# Altium integrated library Infineon_Power_MOSFET.IntLib: 1448 symbols (part 35 of 47)
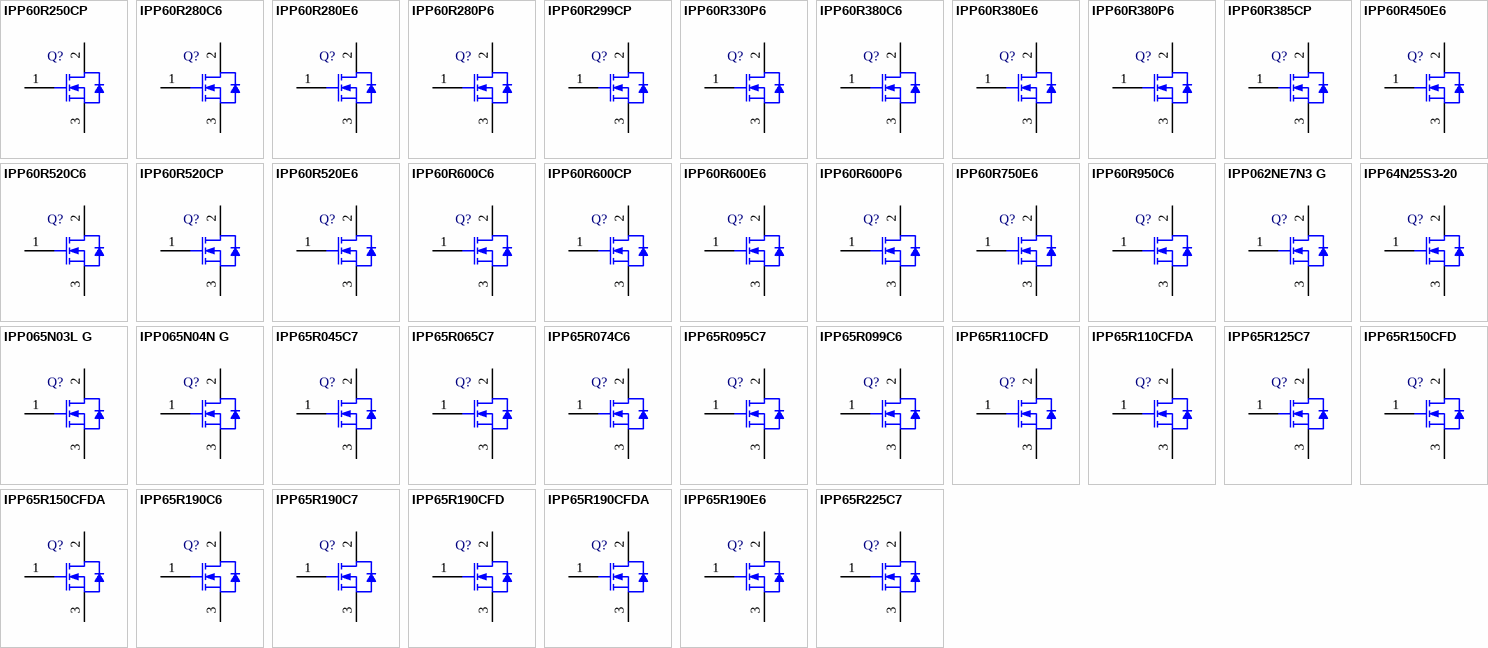
[diagram p71: symbols IPP60R250CP to IPP65R225C7]

## IPP60R600P6
designator Q?
N-Channel CoolMOS(TM) P6 Power Transistor, 600 V VDS, -55 to 150 degC, PG-TO220-3, Tube, Green; Manufacturer: Infineon; PartNumber: IPP60R600P6; Green: TRUE; Polarity: FALSE; RDS (on) (max): 600 mOhm; VDS (max): 600 V; DatasheetVersion: Rev. 2.1; PackageVersion: Rev. 05, 08/2007; PackageReference: PG-TO220-3-1_A; PackageDescription: 3-Pin Plastic (Green) Transistor Single Outline Package, 10.03 x 8.98 mm Body, 2.54 mm Pitch; Supplier 1: Digi-Key; Supplier Part Number 1: IPP60R600P6-ND; Halogen-free: TRUE; Packing: Tube; Mounting Technology: Through Hole; ComponentLink1Description: Manufacturer URL; ComponentLink1URL: http://www.infineon.com/; ComponentLink2Description: Datasheet; ComponentLink2URL: http://www.infineon.com/dgdl/DS_IPx60R600P6_2_1.pdf?folderId=db3a3043156fd5730115c736bcc70ff2&fileId=db3a30433f2e70c5013f3862b5622681; ComponentLink3Description: Package Specification; ComponentLink3URL: http://www.infineon.com/dgdl/IKP30N65H5_2_1.pdf?folderId=db3a3043156fd5730115f56849b61941&fileId=5546d461464245d30146a51a2ca36d28
footprint INF-PG-TO220-3-1_A_V (FM, 3-Leads, Body 10.03x8.98mm, Pitch 2.54mm)
pins: 1 GATE, 2 DRAIN, 3 SOURCE

## IPP60R750E6
designator Q?
N-Channel CoolMOS E6 Power-Transistor, 600 V VDS, 5.7 A ID, -55 to 150 degC, PG-TO220-3-1, Tube, Green; Manufacturer: Infineon; PartNumber: IPP60R750E6; Green: TRUE; ID (max): 5.7 A; IDpuls (max): 15.7 A; Polarity: N; Ptot (max): 48 W; QG: 17.2 nC; RDS (on) (max): 750 mOhm; Rth: 2.6 K/W; RthJA (max): 62 K/W; VDS (max): 600 V; VGS(th) (max): 3.5 V; VGS(th) (min): 2.5 V; DatasheetVersion: Rev. 2.0; PackageVersion: Jul-12; PackageReference: PG-TO220-3-1; PackageDescription: 3-Pin Plastic (Green) Transistor Single Outline Package, 10 x 9.25 mm Body, 2.54 mm Pitch; Supplier 1: Mouser; Supplier Part Number 1: 726-IPP60R750E6; Supplier 2: Digi-Key; Supplier Part Number 2: IPP60R750E6-ND; Halogen-free: TRUE; Packing: Tube; RthJC (max): 2.6 K/W; Technology: CoolMOS E6; Mounting Technology: Through Hole; ComponentLink1Description: Manufacturer URL; ComponentLink1URL: http://www.infineon.com/; ComponentLink2Description: Datasheet; ComponentLink2URL: http://www.infineon.com/dgdl/IPP60R750E6_2.0_.pdf?folderId=db3a3043163797a6011637d4bae7003b&fileId=db3a30432a14dd54012a193e52402af5; ComponentLink3Description: Package Specification; ComponentLink3URL: http://www.infineon.com/dgdl/BTS117_DS_14.pdf?folderId=db3a30431400ef68011421b54e2e0564&fileId=db3a30433a747525013abff8302d549c&location=en.Products.Automotive_ICs.Smart_High-_and_Low-Side_Switches.HITFET___TEMPFET__-_Smart_Low-Side_Switches.DATASHEET.BTS117_DS_14.pdf
footprint INF-PG-TO220-3-1 (FM, 3-Leads, Body 10x4.4mm, Pitch 2.54mm)
pins: 1 GATE, 2 DRAIN, 3 SOURCE

## IPP60R950C6
designator Q?
N-Channel CoolMOS C6 Power-Transistor, 600 V VDS, 4.4 A ID, -55 to 150 degC, PG-TO220-3-1, Tube, Green; Manufacturer: Infineon; PartNumber: IPP60R950C6; Green: TRUE; ID (max): 4.4 A; IDpuls (max): 12 A; Polarity: N; Ptot (max): 37 W; QG: 13 nC; RDS (on) (max): 950 mOhm; Rth: 3.41 K/W; RthJA (max): 62 K/W; VDS (max): 600 V; VGS(th) (max): 3.5 V; VGS(th) (min): 2.5 V; DatasheetVersion: Rev. 2.1; PackageVersion: Jul-12; PackageReference: PG-TO220-3-1; PackageDescription: 3-Pin Plastic (Green) Transistor Single Outline Package, 10 x 9.25 mm Body, 2.54 mm Pitch; Supplier 1: Mouser; Supplier Part Number 1: 726-IPP60R950C6; Supplier 2: Digi-Key; Supplier Part Number 2: IPP60R950C6-ND; Halogen-free: TRUE; Packing: Tube; RthJC (max): 3.41 K/W; Technology: CoolMOS C6; Mounting Technology: Through Hole; ComponentLink1Description: Manufacturer URL; ComponentLink1URL: http://www.infineon.com/; ComponentLink2Description: Datasheet; ComponentLink2URL: http://www.infineon.com/dgdl/IPP60R950C6_2.1.pdf?folderId=db3a30431ff98815012019af55de3f2c&fileId=db3a30432239cccd012297f4f9f644cb; ComponentLink3Description: Package Specification; ComponentLink3URL: http://www.infineon.com/dgdl/BTS117_DS_14.pdf?folderId=db3a30431400ef68011421b54e2e0564&fileId=db3a30433a747525013abff8302d549c&location=en.Products.Automotive_ICs.Smart_High-_and_Low-Side_Switches.HITFET___TEMPFET__-_Smart_Low-Side_Switches.DATASHEET.BTS117_DS_14.pdf
footprint INF-PG-TO220-3-1 (FM, 3-Leads, Body 10x4.4mm, Pitch 2.54mm)
pins: 1 GATE, 2 DRAIN, 3 SOURCE

## IPP062NE7N3 G
designator Q?
N-Channel OptiMOS 3 Power-Transistor, 75 V VDS, 80 A ID, -55 to 175 degC, PG-TO220-3-1, Tube, Green; Manufacturer: Infineon; PartNumber: IPP062NE7N3 G; Green: TRUE; ID (max): 80 A; IDpuls (max): 320 A; Polarity: N; Ptot (max): 136 W; QG: 42 nC; RDS (on) (max): 6.2 mOhm; Rth: 1.1 K/W; VDS (max): 75 V; VGS(th) (max): 3.8 V; VGS(th) (min): 2.3 V; DatasheetVersion: Rev. 2.0; PackageVersion: Rev. 05, 08/2007; PackageReference: PG-TO220-3-1; PackageDescription: 3-Pin Plastic (Green) Transistor Single Outline Package, 10.03 x 8.98 mm Body, 2.54 mm Pitch; Supplier 1: Mouser; Supplier Part Number 1: 726-IPP062NE7N3G; Supplier 2: Digi-Key; Supplier Part Number 2: IPP062NE7N3 G-ND; Halogen-free: TRUE; Packing: Tube; RthJC (max): 1.1 K/W; Mounting Technology: Through Hole; ComponentLink1Description: Manufacturer URL; ComponentLink1URL: http://www.infineon.com/; ComponentLink2Description: Datasheet; ComponentLink2URL: http://www.infineon.com/dgdl/IPP062NE7N3_Rev2+0.pdf?folderId=db3a304327b897500127f1ef299a3be0&fileId=db3a304327b897500127f1efd3323be2; ComponentLink3Description: Package Specification; ComponentLink3URL: http://www.infineon.com/dgdl/IPP028N08N3_Rev1%5B1%5D.0.pdf?folderId=db3a304313b8b5a60113cee8763b02d7&fileId=db3a30432313ff5e0123a3c08e7326b5
footprint INF-PG-TO220-3-1_A_V (FM, 3-Leads, Body 10.03x8.98mm, Pitch 2.54mm)
pins: 1 GATE, 2 DRAIN, 3 SOURCE

## IPP64N25S3-20
designator Q?
OptiMOS-T Power-Transistor, 250 V VDS, 64 A ID, PG-TO220-3-1, Green; Manufacturer: Infineon; PartNumber: IPP64N25S3-20; Green: TRUE; ID (max): 64 A; IDpuls (max): 256 A; Ptot (max): 300 W; QG: 67 nC; RDS (on) (max) (@10V): 20 mOhm; RthJC (max): 0.5 K/W; VDS (max): 250 V; VGS(th) (max): 4 V; VGS(th) (min): 2 V; DatasheetVersion: Rev. 1.0; PackageVersion: Jul-12; PackageReference: PG-TO220-3-1; PackageDescription: 3-Pin Plastic (Green) Transistor Single Outline Package, 10 x 9.25 mm Body, 2.54 mm Pitch; Halogen-free: TRUE; Technology: OptiMOS-T; Mounting Technology: Through Hole; ComponentLink1Description: Manufacturer URL; ComponentLink1URL: http://www.infineon.com/; ComponentLink2Description: Datasheet; ComponentLink2URL: http://www.infineon.com/dgdl/IPP_B_I64N25S3-20_DS_10.pdf?folderId=db3a30433b92f0e8013b9377b6270147&fileId=db3a30433b92f0e8013b937af6620149&location=en.Products.Automotive_ICs.Automotive_MOSFETs.Single__N-Channel_250V_MOSFETs.DATASHEET.IPP_B_I64N25S3-20_DS_10.pdf; ComponentLink3Description: Package Specification; ComponentLink3URL: http://www.infineon.com/dgdl/BTS117_DS_14.pdf?folderId=db3a30431400ef68011421b54e2e0564&fileId=db3a30433a747525013abff8302d549c&location=en.Products.Automotive_ICs.Smart_High-_and_Low-Side_Switches.HITFET___TEMPFET__-_Smart_Low-Side_Switches.DATASHEET.BTS117_DS_14.pdf
footprint INF-PG-TO220-3-1 (FM, 3-Leads, Body 10x4.4mm, Pitch 2.54mm)
pins: 1 GATE, 2 DRAIN, 3 SOURCE

## IPP065N03L G
designator Q?
N-Channel OptiMOS 3 Power-Transistor, 30 V VDS, 50 A ID, -55 to 175 degC, PG-TO220-3-1, Tube, Green; Manufacturer: Infineon; PartNumber: IPP065N03L G; Green: TRUE; ID (max): 50 A; IDpuls (max): 350 A; Polarity: N; Ptot (max): 56 W; QG: 11 nC; RDS (on) (max): 6.5 mOhm; RDS (on) (max) (@4.5V): 9.5 mOhm; Rth: 2.7 K/W; RthJA (max): 62 K/W; VDS (max): 30 V; VGS(th) (max): 2.2 V; VGS(th) (min): 1 V; DatasheetVersion: Rev. 2.0; PackageVersion: Rev. 05, 08/2007; PackageReference: PG-TO220-3-1; PackageDescription: 3-Pin Plastic (Green) Transistor Single Outline Package, 10.03 x 8.98 mm Body, 2.54 mm Pitch; Supplier 1: Digi-Key; Supplier Part Number 1: IPP065N03LGIN-ND; Halogen-free: TRUE; Packing: Tube; RthJC (max): 2.7 K/W; Mounting Technology: Through Hole; ComponentLink1Description: Manufacturer URL; ComponentLink1URL: http://www.infineon.com/; ComponentLink2Description: Datasheet; ComponentLink2URL: http://www.infineon.com/dgdl/IPP065N03L_rev2.pdf?folderId=db3a304313b8b5a60113cee8763b02d7&fileId=db3a30432313ff5e01239ecdff6070bd; ComponentLink3Description: Package Specification; ComponentLink3URL: http://www.infineon.com/dgdl/IPP028N08N3_Rev1%5B1%5D.0.pdf?folderId=db3a304313b8b5a60113cee8763b02d7&fileId=db3a30432313ff5e0123a3c08e7326b5
footprint INF-PG-TO220-3-1_A_V (FM, 3-Leads, Body 10.03x8.98mm, Pitch 2.54mm)
pins: 1 GATE, 2 DRAIN, 3 SOURCE

## IPP065N04N G
designator Q?
N-Channel OptiMOS 3 Power-Transistor, 40 V VDS, 50 A ID, -55 to 175 degC, PG-TO220-3-1, Tube, Green; Manufacturer: Infineon; PartNumber: IPP065N04N G; Green: TRUE; ID (max): 50 A; IDpuls (max): 350 A; Polarity: N; Ptot (max): 68 W; QG: 26 nC; RDS (on) (max): 6.5 mOhm; Rth: 2.2 K/W; VDS (max): 40 V; VGS(th) (max): 4 V; VGS(th) (min): 2 V; DatasheetVersion: Rev. 1.0; PackageVersion: Rev. 05, 08/2007; PackageReference: PG-TO220-3-1; PackageDescription: 3-Pin Plastic (Green) Transistor Single Outline Package, 10.03 x 8.98 mm Body, 2.54 mm Pitch; Supplier 1: Mouser; Supplier Part Number 1: 726-IPP065N04NG; Supplier 2: Digi-Key; Supplier Part Number 2: IPP065N04N G-ND; Halogen-free: TRUE; Packing: Tube; RthJC (max): 2.2 K/W; Mounting Technology: Through Hole; ComponentLink1Description: Manufacturer URL; ComponentLink1URL: http://www.infineon.com/; ComponentLink2Description: Datasheet; ComponentLink2URL: http://www.infineon.com/dgdl/IPP065N04N_rev1.pdf?folderId=db3a3043163797a6011643468e7505a4&fileId=db3a304325afd6e0012626e188d92198; ComponentLink3Description: Package Specification; ComponentLink3URL: http://www.infineon.com/dgdl/IPP028N08N3_Rev1%5B1%5D.0.pdf?folderId=db3a304313b8b5a60113cee8763b02d7&fileId=db3a30432313ff5e0123a3c08e7326b5
footprint INF-PG-TO220-3-1_A_V (FM, 3-Leads, Body 10.03x8.98mm, Pitch 2.54mm)
pins: 1 GATE, 2 DRAIN, 3 SOURCE

## IPP65R045C7
designator Q?
N-Channel CoolMOS(TM) C7 Power Transistor, 650 V VDS, -55 to 150 degC, PG-TO220-3, Tube, Green; Manufacturer: Infineon; PartNumber: IPP65R045C7; Green: TRUE; Polarity: FALSE; RDS (on) (max): 45 mOhm; VDS (max): 650 V; DatasheetVersion: Rev. 2.1; PackageVersion: Rev. 05, 08/2007; PackageReference: PG-TO220-3-1_A; PackageDescription: 3-Pin Plastic (Green) Transistor Single Outline Package, 10.03 x 8.98 mm Body, 2.54 mm Pitch; Supplier 1: Mouser; Supplier Part Number 1: 726-IPP65R045C7; Halogen-free: TRUE; Packing: Tube; Mounting Technology: Through Hole; ComponentLink1Description: Manufacturer URL; ComponentLink1URL: http://www.infineon.com/; ComponentLink2Description: Datasheet; ComponentLink2URL: http://www.infineon.com/dgdl/DS_IPP65R045C7_2_1.pdf?folderId=db3a30431ff98815012019af55de3f2c&fileId=db3a30433e78ea82013e7942aa8701ff; ComponentLink3Description: Package Specification; ComponentLink3URL: http://www.infineon.com/dgdl/IKP30N65H5_2_1.pdf?folderId=db3a3043156fd5730115f56849b61941&fileId=5546d461464245d30146a51a2ca36d28
footprint INF-PG-TO220-3-1_A_V (FM, 3-Leads, Body 10.03x8.98mm, Pitch 2.54mm)
pins: 1 GATE, 2 DRAIN, 3 SOURCE

## IPP65R065C7
designator Q?
N-Channel CoolMOS(TM) C7 Power Transistor, 650 V VDS, -55 to 150 degC, PG-TO220-3, Tube, Green; Manufacturer: Infineon; PartNumber: IPP65R065C7; Green: TRUE; Polarity: FALSE; RDS (on) (max): 65 mOhm; VDS (max): 650 V; DatasheetVersion: Rev. 2.0; PackageVersion: Rev. 05, 08/2007; PackageReference: PG-TO220-3-1_A; PackageDescription: 3-Pin Plastic (Green) Transistor Single Outline Package, 10.03 x 8.98 mm Body, 2.54 mm Pitch; Supplier 1: Mouser; Supplier Part Number 1: N/A; Halogen-free: TRUE; Packing: Tube; Mounting Technology: Through Hole; ComponentLink1Description: Manufacturer URL; ComponentLink1URL: http://www.infineon.com/; ComponentLink2Description: Datasheet; ComponentLink2URL: http://www.infineon.com/dgdl/DS_IPP65R065C7_2_0.pdf?folderId=db3a3043156fd5730115c736bcc70ff2&fileId=db3a30434208e5fd014209a99d8f0281; ComponentLink3Description: Package Specification; ComponentLink3URL: http://www.infineon.com/dgdl/IKP30N65H5_2_1.pdf?folderId=db3a3043156fd5730115f56849b61941&fileId=5546d461464245d30146a51a2ca36d28
footprint INF-PG-TO220-3-1_A_V (FM, 3-Leads, Body 10.03x8.98mm, Pitch 2.54mm)
pins: 1 GATE, 2 DRAIN, 3 SOURCE

## IPP65R074C6
designator Q?
N-Channel CoolMOS C6 Power-Transistor, 650 V VDS, 57.7 A ID, -55 to 150 degC, PG-TO220-3-1, Tube, Green; Manufacturer: Infineon; PartNumber: IPP65R074C6; Green: TRUE; ID (max): 57.7 A; IDpuls (max): 151 A; Polarity: N; Ptot (max): 480.8 W; QG: 138 nC; RDS (on) (max): 74 mOhm; Rth: 0.26 K/W; RthJA (max): 62 K/W; VDS (max): 650 V; VGS(th) (max): 3.5 V; VGS(th) (min): 2.5 V; DatasheetVersion: Rev. 2.1; PackageVersion: Jul-12; PackageReference: PG-TO220-3-1; PackageDescription: 3-Pin Plastic (Green) Transistor Single Outline Package, 10 x 9.25 mm Body, 2.54 mm Pitch; Halogen-free: TRUE; Packing: Tube; RthJC (max): 0.26 K/W; Technology: CoolMOS C6; Mounting Technology: Through Hole; ComponentLink1Description: Manufacturer URL; ComponentLink1URL: http://www.infineon.com/; ComponentLink2Description: Datasheet; ComponentLink2URL: http://www.infineon.com/dgdl/IPP65R074C6_2_1.pdf?folderId=db3a3043163797a6011637d4bae7003b&fileId=db3a3043337a914d013383b9c5d060d1; ComponentLink3Description: Package Specification; ComponentLink3URL: http://www.infineon.com/dgdl/BTS117_DS_14.pdf?folderId=db3a30431400ef68011421b54e2e0564&fileId=db3a30433a747525013abff8302d549c&location=en.Products.Automotive_ICs.Smart_High-_and_Low-Side_Switches.HITFET___TEMPFET__-_Smart_Low-Side_Switches.DATASHEET.BTS117_DS_14.pdf
footprint INF-PG-TO220-3-1 (FM, 3-Leads, Body 10x4.4mm, Pitch 2.54mm)
pins: 1 GATE, 2 DRAIN, 3 SOURCE

## IPP65R095C7
designator Q?
N-Channel CoolMOS(TM) C7 Power Transistor, 650 V VDS, -55 to 150 degC, PG-TO220-3, Tube, Green; Manufacturer: Infineon; PartNumber: IPP65R095C7; Green: TRUE; Polarity: FALSE; RDS (on) (max): 95 mOhm; VDS (max): 650 V; DatasheetVersion: Rev. 2.0; PackageVersion: Rev. 05, 08/2007; PackageReference: PG-TO220-3-1_A; PackageDescription: 3-Pin Plastic (Green) Transistor Single Outline Package, 10.03 x 8.98 mm Body, 2.54 mm Pitch; Supplier 1: Mouser; Supplier Part Number 1: N/A; Halogen-free: TRUE; Packing: Tube; Mounting Technology: Through Hole; ComponentLink1Description: Manufacturer URL; ComponentLink1URL: http://www.infineon.com/; ComponentLink2Description: Datasheet; ComponentLink2URL: http://www.infineon.com/dgdl/DS_IPP65R095C7_2_0.pdf?folderId=db3a3043156fd5730115c736bcc70ff2&fileId=db3a30434208e5fd014209e8c8600334; ComponentLink3Description: Package Specification; ComponentLink3URL: http://www.infineon.com/dgdl/IKP30N65H5_2_1.pdf?folderId=db3a3043156fd5730115f56849b61941&fileId=5546d461464245d30146a51a2ca36d28
footprint INF-PG-TO220-3-1_A_V (FM, 3-Leads, Body 10.03x8.98mm, Pitch 2.54mm)
pins: 1 GATE, 2 DRAIN, 3 SOURCE

## IPP65R099C6
designator Q?
N-Channel CoolMOS C6 Power-Transistor, 650 V VDS, 38 A ID, -55 to 150 degC, PG-TO220-3-1, Tube, Green; Manufacturer: Infineon; PartNumber: IPP65R099C6; Green: TRUE; ID (max): 38 A; IDpuls (max): 115 A; Polarity: N; Ptot (max): 278 W; QG: 127 nC; RDS (on) (max): 99 mOhm; Rth: 0.45 K/W; RthJA (max): 62 K/W; VDS (max): 650 V; VGS(th) (max): 3.5 V; VGS(th) (min): 2.5 V; DatasheetVersion: Rev. 2.0; PackageVersion: Jul-12; PackageReference: PG-TO220-3-1; PackageDescription: 3-Pin Plastic (Green) Transistor Single Outline Package, 10 x 9.25 mm Body, 2.54 mm Pitch; Halogen-free: TRUE; Packing: Tube; RthJC (max): 0.45 K/W; Technology: CoolMOS C6; Mounting Technology: Through Hole; ComponentLink1Description: Manufacturer URL; ComponentLink1URL: http://www.infineon.com/; ComponentLink2Description: Datasheet; ComponentLink2URL: http://www.infineon.com/dgdl/IPP65R099C6.pdf?folderId=db3a3043163797a6011637d4bae7003b&fileId=db3a3043341f67a10134414422d35066; ComponentLink3Description: Package Specification; ComponentLink3URL: http://www.infineon.com/dgdl/BTS117_DS_14.pdf?folderId=db3a30431400ef68011421b54e2e0564&fileId=db3a30433a747525013abff8302d549c&location=en.Products.Automotive_ICs.Smart_High-_and_Low-Side_Switches.HITFET___TEMPFET__-_Smart_Low-Side_Switches.DATASHEET.BTS117_DS_14.pdf
footprint INF-PG-TO220-3-1 (FM, 3-Leads, Body 10x4.4mm, Pitch 2.54mm)
pins: 1 GATE, 2 DRAIN, 3 SOURCE

## IPP65R110CFD
designator Q?
N-Channel CoolMOS CFD2 Power-Transistor, 650 V VDS, 31.2 A ID, -55 to 150 degC, PG-TO220-3-1, Tube, Green; Manufacturer: Infineon; PartNumber: IPP65R110CFD; Green: TRUE; ID (max): 31.2 A; IDpuls (max): 99.6 A; Polarity: N; Ptot (max): 277.8 W; QG: 118 nC; RDS (on) (max): 110 mOhm; Rth: 0.45 K/W; RthJA (max): 62 K/W; VDS (max): 650 V; VGS(th) (max): 4.5 V; VGS(th) (min): 3.5 V; DatasheetVersion: Rev. 2.6; PackageVersion: Jul-12; PackageReference: PG-TO220-3-1; PackageDescription: 3-Pin Plastic (Green) Transistor Single Outline Package, 10 x 9.25 mm Body, 2.54 mm Pitch; Supplier 1: Mouser; Supplier Part Number 1: 726-IPP65R110CFD; Supplier 2: Digi-Key; Supplier Part Number 2: IPP65R110CFD-ND; Halogen-free: TRUE; Packing: Tube; RthJC (max): 0.45 K/W; Technology: CoolMOS CFD2; Mounting Technology: Through Hole; ComponentLink1Description: Manufacturer URL; ComponentLink1URL: http://www.infineon.com/; ComponentLink2Description: Datasheet; ComponentLink2URL: http://www.infineon.com/dgdl/DS_IPX65R110CFD_2_61.pdf?folderId=db3a3043156fd5730115c736bcc70ff2&fileId=db3a30433004641301306abd8e2041b1; ComponentLink3Description: Package Specification; ComponentLink3URL: http://www.infineon.com/dgdl/BTS117_DS_14.pdf?folderId=db3a30431400ef68011421b54e2e0564&fileId=db3a30433a747525013abff8302d549c&location=en.Products.Automotive_ICs.Smart_High-_and_Low-Side_Switches.HITFET___TEMPFET__-_Smart_Low-Side_Switches.DATASHEET.BTS117_DS_14.pdf
footprint INF-PG-TO220-3-1 (FM, 3-Leads, Body 10x4.4mm, Pitch 2.54mm)
pins: 1 GATE, 2 DRAIN, 3 SOURCE

## IPP65R110CFDA
designator Q?
N-Channel CoolMOS CFDA Power-Transistor, 650 V VDS, 31.2 A ID, -40 to 150 degC, PG-TO220-3-1, Tube, Green; Manufacturer: Infineon; PartNumber: IPP65R110CFDA; Green: TRUE; ID (max): 31.2 A; IDpuls (max): 99.6 A; Polarity: N; Ptot (max): 277.8 W; QG: 118 nC; RDS (on) (max): 110 mOhm; Rth: 0.45 K/W; RthJA (max): 62 K/W; VDS (max): 650 V; VGS(th) (max): 4.5 V; VGS(th) (min): 3.5 V; DatasheetVersion: Rev. 2.0; PackageVersion: Jul-12; PackageReference: PG-TO220-3-1; PackageDescription: 3-Pin Plastic (Green) Transistor Single Outline Package, 10 x 9.25 mm Body, 2.54 mm Pitch; Halogen-free: TRUE; Packing: Tube; RthJC (max): 0.45 K/W; Technology: CoolMOS CFDA; Mounting Technology: Through Hole; ComponentLink1Description: Manufacturer URL; ComponentLink1URL: http://www.infineon.com/; ComponentLink2Description: Datasheet; ComponentLink2URL: http://www.infineon.com/dgdl/DS_IPX65R110CFDA_2_0.pdf?folderId=db3a3043163797a6011637d4bae7003b&fileId=db3a304336797ff90136ba7c820925a5; ComponentLink3Description: Package Specification; ComponentLink3URL: http://www.infineon.com/dgdl/BTS117_DS_14.pdf?folderId=db3a30431400ef68011421b54e2e0564&fileId=db3a30433a747525013abff8302d549c&location=en.Products.Automotive_ICs.Smart_High-_and_Low-Side_Switches.HITFET___TEMPFET__-_Smart_Low-Side_Switches.DATASHEET.BTS117_DS_14.pdf
footprint INF-PG-TO220-3-1 (FM, 3-Leads, Body 10x4.4mm, Pitch 2.54mm)
pins: 1 GATE, 2 DRAIN, 3 SOURCE

## IPP65R125C7
designator Q?
N-Channel CoolMOS(TM) C7 Power Transistor, 650 V VDS, -55 to 150 degC, PG-TO220-3, Tube, Green; Manufacturer: Infineon; PartNumber: IPP65R125C7; Green: TRUE; Polarity: FALSE; RDS (on) (max): 125 mOhm; VDS (max): 650 V; DatasheetVersion: Rev. 2.0; PackageVersion: Rev. 05, 08/2007; PackageReference: PG-TO220-3-1_A; PackageDescription: 3-Pin Plastic (Green) Transistor Single Outline Package, 10.03 x 8.98 mm Body, 2.54 mm Pitch; Supplier 1: Farnell; Supplier Part Number 1: 2420507; Supplier 2: Newark; Supplier Part Number 2: 54X5231; Supplier 3: Mouser; Supplier Part Number 3: N/A; Halogen-free: TRUE; Packing: Tube; Mounting Technology: Through Hole; ComponentLink1Description: Manufacturer URL; ComponentLink1URL: http://www.infineon.com/; ComponentLink2Description: Datasheet; ComponentLink2URL: http://www.infineon.com/dgdl/DS_IPP65R125C7_2_0.pdf?folderId=db3a3043156fd5730115c736bcc70ff2&fileId=db3a30434208e5fd014209f7e8700375; ComponentLink3Description: Package Specification; ComponentLink3URL: http://www.infineon.com/dgdl/IKP30N65H5_2_1.pdf?folderId=db3a3043156fd5730115f56849b61941&fileId=5546d461464245d30146a51a2ca36d28
footprint INF-PG-TO220-3-1_A_V (FM, 3-Leads, Body 10.03x8.98mm, Pitch 2.54mm)
pins: 1 GATE, 2 DRAIN, 3 SOURCE

## IPP65R150CFD
designator Q?
N-Channel CoolMOS CFD2 Power-Transistor, 650 V VDS, 22.4 A ID, -55 to 150 degC, PG-TO220-3-1, Tube, Green; Manufacturer: Infineon; PartNumber: IPP65R150CFD; Green: TRUE; ID (max): 22.4 A; IDpuls (max): 72 A; Polarity: N; Ptot (max): 195.3 W; QG: 86 nC; RDS (on) (max): 150 mOhm; Rth: 0.64 K/W; RthJA (max): 62 K/W; VDS (max): 650 V; VGS(th) (max): 4.5 V; VGS(th) (min): 3.5 V; DatasheetVersion: Rev. 2.0; PackageVersion: Jul-12; PackageReference: PG-TO220-3-1; PackageDescription: 3-Pin Plastic (Green) Transistor Single Outline Package, 10 x 9.25 mm Body, 2.54 mm Pitch; Halogen-free: TRUE; Packing: Tube; RthJC (max): 0.64 K/W; Technology: CoolMOS CFD2; Mounting Technology: Through Hole; ComponentLink1Description: Manufacturer URL; ComponentLink1URL: http://www.infineon.com/; ComponentLink2Description: Datasheet; ComponentLink2URL: http://www.infineon.com/dgdl/DS_IPX65R150CFD__2_01.pdf?folderId=db3a3043156fd5730115c736bcc70ff2&fileId=db3a3043338c8ac80133ace218433063; ComponentLink3Description: Package Specification; ComponentLink3URL: http://www.infineon.com/dgdl/BTS117_DS_14.pdf?folderId=db3a30431400ef68011421b54e2e0564&fileId=db3a30433a747525013abff8302d549c&location=en.Products.Automotive_ICs.Smart_High-_and_Low-Side_Switches.HITFET___TEMPFET__-_Smart_Low-Side_Switches.DATASHEET.BTS117_DS_14.pdf
footprint INF-PG-TO220-3-1 (FM, 3-Leads, Body 10x4.4mm, Pitch 2.54mm)
pins: 1 GATE, 2 DRAIN, 3 SOURCE

## IPP65R150CFDA
designator Q?
N-Channel CoolMOS CFDA Power-Transistor, 650 V VDS, 22.4 A ID, -40 to 150 degC, PG-TO220-3-1, Tube, Green; Manufacturer: Infineon; PartNumber: IPP65R150CFDA; Green: TRUE; ID (max): 22.4 A; IDpuls (max): 72 A; Polarity: N; Ptot (max): 195.3 W; QG: 86 nC; RDS (on) (max): 150 mOhm; Rth: 0.64 K/W; RthJA (max): 62 K/W; VDS (max): 650 V; VGS(th) (max): 4.5 V; VGS(th) (min): 3.5 V; DatasheetVersion: Rev. 2.0; PackageVersion: Jul-12; PackageReference: PG-TO220-3-1; PackageDescription: 3-Pin Plastic (Green) Transistor Single Outline Package, 10 x 9.25 mm Body, 2.54 mm Pitch; Halogen-free: TRUE; Packing: Tube; RthJC (max): 0.64 K/W; Technology: CoolMOS CFDA; Mounting Technology: Through Hole; ComponentLink1Description: Manufacturer URL; ComponentLink1URL: http://www.infineon.com/; ComponentLink2Description: Datasheet; ComponentLink2URL: http://www.infineon.com/dgdl/DS_IPX65R150CFDA_final+2.0.pdf?folderId=db3a3043156fd5730115c736bcc70ff2&fileId=db3a3043399628450139af71b2a12046; ComponentLink3Description: Package Specification; ComponentLink3URL: http://www.infineon.com/dgdl/BTS117_DS_14.pdf?folderId=db3a30431400ef68011421b54e2e0564&fileId=db3a30433a747525013abff8302d549c&location=en.Products.Automotive_ICs.Smart_High-_and_Low-Side_Switches.HITFET___TEMPFET__-_Smart_Low-Side_Switches.DATASHEET.BTS117_DS_14.pdf
footprint INF-PG-TO220-3-1 (FM, 3-Leads, Body 10x4.4mm, Pitch 2.54mm)
pins: 1 GATE, 2 DRAIN, 3 SOURCE

## IPP65R190C6
designator Q?
N-Channel CoolMOS C6 Power-Transistor, 650 V VDS, 20.2 A ID, -55 to 150 degC, PG-TO220-3-1, Tube, Green; Manufacturer: Infineon; PartNumber: IPP65R190C6; Green: TRUE; ID (max): 20.2 A; IDpuls (max): 66 A; Polarity: N; Ptot (max): 151 W; QG: 73 nC; RDS (on) (max): 190 mOhm; Rth: 0.83 K/W; RthJA (max): 62 K/W; VDS (max): 650 V; VGS(th) (max): 3.5 V; VGS(th) (min): 2.5 V; DatasheetVersion: Rev. 2.0; PackageVersion: Jul-12; PackageReference: PG-TO220-3-1; PackageDescription: 3-Pin Plastic (Green) Transistor Single Outline Package, 10 x 9.25 mm Body, 2.54 mm Pitch; Halogen-free: TRUE; Packing: Tube; RthJC (max): 0.83 K/W; Technology: CoolMOS C6; Mounting Technology: Through Hole; ComponentLink1Description: Manufacturer URL; ComponentLink1URL: http://www.infineon.com/; ComponentLink2Description: Datasheet; ComponentLink2URL: http://www.infineon.com/dgdl/IPP65R190C6_2_0.pdf?folderId=db3a3043163797a6011637d4bae7003b&fileId=db3a304330046413013007f7a1553d7c; ComponentLink3Description: Package Specification; ComponentLink3URL: http://www.infineon.com/dgdl/BTS117_DS_14.pdf?folderId=db3a30431400ef68011421b54e2e0564&fileId=db3a30433a747525013abff8302d549c&location=en.Products.Automotive_ICs.Smart_High-_and_Low-Side_Switches.HITFET___TEMPFET__-_Smart_Low-Side_Switches.DATASHEET.BTS117_DS_14.pdf
footprint INF-PG-TO220-3-1 (FM, 3-Leads, Body 10x4.4mm, Pitch 2.54mm)
pins: 1 GATE, 2 DRAIN, 3 SOURCE

## IPP65R190C7
designator Q?
N-Channel CoolMOS(TM) C7 Power Transistor, 650 V VDS, -55 to 150 degC, PG-TO220-3, Tube, Green; Manufacturer: Infineon; PartNumber: IPP65R190C7; Green: TRUE; Polarity: FALSE; RDS (on) (max): 190 mOhm; VDS (max): 650 V; DatasheetVersion: Rev. 2.1; PackageVersion: Rev. 05, 08/2007; PackageReference: PG-TO220-3-1_A; PackageDescription: 3-Pin Plastic (Green) Transistor Single Outline Package, 10.03 x 8.98 mm Body, 2.54 mm Pitch; Supplier 1: Farnell; Supplier Part Number 1: 2420494; Supplier 2: Newark; Supplier Part Number 2: 54X5232; Supplier 3: Mouser; Supplier Part Number 3: N/A; Halogen-free: available; Packing: Tube; Mounting Technology: Through Hole; ComponentLink1Description: Manufacturer URL; ComponentLink1URL: http://www.infineon.com/; ComponentLink2Description: Datasheet; ComponentLink2URL: http://www.infineon.com/dgdl/DS_IPP65R190C7_2_1.pdf?folderId=db3a3043156fd5730115c736bcc70ff2&fileId=db3a30434208e5fd01420d92241763c9; ComponentLink3Description: Package Specification; ComponentLink3URL: http://www.infineon.com/dgdl/IKP30N65H5_2_1.pdf?folderId=db3a3043156fd5730115f56849b61941&fileId=5546d461464245d30146a51a2ca36d28
footprint INF-PG-TO220-3-1_A_V (FM, 3-Leads, Body 10.03x8.98mm, Pitch 2.54mm)
pins: 1 GATE, 2 DRAIN, 3 SOURCE

## IPP65R190CFD
designator Q?
N-Channel CoolMOS C6 CFD Power-Transistor, 650 V VDS, 17.5 A ID, -55 to 150 degC, PG-TO220-3-1, Tube, Green; Manufacturer: Infineon; PartNumber: IPP65R190CFD; Green: TRUE; ID (max): 17.5 A; IDpuls (max): 57.2 A; Polarity: N; Ptot (max): 151 W; QG: 68 nC; RDS (on) (max): 190 mOhm; Rth: 0.83 K/W; RthJA (max): 62 K/W; VDS (max): 650 V; VGS(th) (max): 4.5 V; VGS(th) (min): 3.5 V; DatasheetVersion: Rev. 2.2; PackageVersion: Jul-12; PackageReference: PG-TO220-3-1; PackageDescription: 3-Pin Plastic (Green) Transistor Single Outline Package, 10 x 9.25 mm Body, 2.54 mm Pitch; Supplier 1: Mouser; Supplier Part Number 1: 726-IPP65R190CFD; Supplier 2: Digi-Key; Supplier Part Number 2: IPP65R190CFD-ND; Halogen-free: TRUE; Packing: Tube; RthJC (max): 0.83 K/W; Technology: CoolMOS CFD2; Mounting Technology: Through Hole; ComponentLink1Description: Manufacturer URL; ComponentLink1URL: http://www.infineon.com/; ComponentLink2Description: Datasheet; ComponentLink2URL: http://www.infineon.com/dgdl/DS_IPX65R190CFD__2_2.pdf?folderId=db3a3043163797a6011637d4bae7003b&fileId=db3a30432fd0c54a012fded065a8309b; ComponentLink3Description: Package Specification; ComponentLink3URL: http://www.infineon.com/dgdl/BTS117_DS_14.pdf?folderId=db3a30431400ef68011421b54e2e0564&fileId=db3a30433a747525013abff8302d549c&location=en.Products.Automotive_ICs.Smart_High-_and_Low-Side_Switches.HITFET___TEMPFET__-_Smart_Low-Side_Switches.DATASHEET.BTS117_DS_14.pdf
footprint INF-PG-TO220-3-1 (FM, 3-Leads, Body 10x4.4mm, Pitch 2.54mm)
pins: 1 GATE, 2 DRAIN, 3 SOURCE

## IPP65R190CFDA
designator Q?
N-Channel CoolMOS CFDA Power-Transistor, 650 V VDS, 17.5 A ID, -40 to 150 degC, PG-TO220-3-1, Tube, Green; Manufacturer: Infineon; PartNumber: IPP65R190CFDA; Green: TRUE; ID (max): 17.5 A; IDpuls (max): 57.2 A; Polarity: N; Ptot (max): 151 W; QG: 68 nC; RDS (on) (max): 190 mOhm; Rth: 0.83 K/W; RthJA (max): 62 K/W; VDS (max): 650 V; VGS(th) (max): 4.5 V; VGS(th) (min): 3.5 V; DatasheetVersion: Rev. 2.0; PackageVersion: Jul-12; PackageReference: PG-TO220-3-1; PackageDescription: 3-Pin Plastic (Green) Transistor Single Outline Package, 10 x 9.25 mm Body, 2.54 mm Pitch; Halogen-free: TRUE; Packing: Tube; RthJC (max): 0.83 K/W; Technology: CoolMOS CFDA; Mounting Technology: Through Hole; ComponentLink1Description: Manufacturer URL; ComponentLink1URL: http://www.infineon.com/; ComponentLink2Description: Datasheet; ComponentLink2URL: http://www.infineon.com/dgdl/DS_IPX65R190CFDA_final+2.0.pdf?folderId=db3a3043156fd5730115c736bcc70ff2&fileId=db3a3043399628450139afa2346920a1; ComponentLink3Description: Package Specification; ComponentLink3URL: http://www.infineon.com/dgdl/BTS117_DS_14.pdf?folderId=db3a30431400ef68011421b54e2e0564&fileId=db3a30433a747525013abff8302d549c&location=en.Products.Automotive_ICs.Smart_High-_and_Low-Side_Switches.HITFET___TEMPFET__-_Smart_Low-Side_Switches.DATASHEET.BTS117_DS_14.pdf
footprint INF-PG-TO220-3-1 (FM, 3-Leads, Body 10x4.4mm, Pitch 2.54mm)
pins: 1 GATE, 2 DRAIN, 3 SOURCE

## IPP65R190E6
designator Q?
N-Channel CoolMOS E6 Power-Transistor, 650 V VDS, 20.2 A ID, -55 to 150 degC, PG-TO220-3-1, Tube, Green; Manufacturer: Infineon; PartNumber: IPP65R190E6; Green: TRUE; ID (max): 20.2 A; IDpuls (max): 66 A; Polarity: N; Ptot (max): 151 W; QG: 73 nC; RDS (on) (max): 190 mOhm; Rth: 0.83 K/W; RthJA (max): 62 K/W; VDS (max): 650 V; VGS(th) (max): 3.5 V; VGS(th) (min): 2.5 V; DatasheetVersion: Rev. 2.0; PackageVersion: Jul-12; PackageReference: PG-TO220-3-1; PackageDescription: 3-Pin Plastic (Green) Transistor Single Outline Package, 10 x 9.25 mm Body, 2.54 mm Pitch; Halogen-free: TRUE; Packing: Tube; RthJC (max): 0.83 K/W; Technology: CoolMOS E6; Mounting Technology: Through Hole; ComponentLink1Description: Manufacturer URL; ComponentLink1URL: http://www.infineon.com/; ComponentLink2Description: Datasheet; ComponentLink2URL: http://www.infineon.com/dgdl/IPP65R190E6_2_0.pdf?folderId=db3a3043163797a6011637d4bae7003b&fileId=db3a3043300464130130075026ea3b7e; ComponentLink3Description: Package Specification; ComponentLink3URL: http://www.infineon.com/dgdl/BTS117_DS_14.pdf?folderId=db3a30431400ef68011421b54e2e0564&fileId=db3a30433a747525013abff8302d549c&location=en.Products.Automotive_ICs.Smart_High-_and_Low-Side_Switches.HITFET___TEMPFET__-_Smart_Low-Side_Switches.DATASHEET.BTS117_DS_14.pdf
footprint INF-PG-TO220-3-1 (FM, 3-Leads, Body 10x4.4mm, Pitch 2.54mm)
pins: 1 GATE, 2 DRAIN, 3 SOURCE

## IPP65R225C7
designator Q?
N-Channel CoolMOS(TM) C7 Power Transistor, 650 V VDS, -55 to 150 degC, PG-TO220-3, Tube, Green; Manufacturer: Infineon; PartNumber: IPP65R225C7; Green: TRUE; Polarity: FALSE; RDS (on) (max): 225 mOhm; VDS (max): 650 V; DatasheetVersion: Rev. 2.0; PackageVersion: Rev. 05, 08/2007; PackageReference: PG-TO220-3-1_A; PackageDescription: 3-Pin Plastic (Green) Transistor Single Outline Package, 10.03 x 8.98 mm Body, 2.54 mm Pitch; Supplier 1: Mouser; Supplier Part Number 1: 726-IPB65R225C7; Halogen-free: TRUE; Packing: Tube; Mounting Technology: Through Hole; ComponentLink1Description: Manufacturer URL; ComponentLink1URL: http://www.infineon.com/; ComponentLink2Description: Datasheet; ComponentLink2URL: http://www.infineon.com/dgdl/DS_IPP65R225C7_2_0.pdf?folderId=db3a30431ff98815012019af55de3f2c&fileId=db3a30433e78ea82013e7929d3340105; ComponentLink3Description: Package Specification; ComponentLink3URL: http://www.infineon.com/dgdl/IKP30N65H5_2_1.pdf?folderId=db3a3043156fd5730115f56849b61941&fileId=5546d461464245d30146a51a2ca36d28
footprint INF-PG-TO220-3-1_A_V (FM, 3-Leads, Body 10.03x8.98mm, Pitch 2.54mm)
pins: 1 GATE, 2 DRAIN, 3 SOURCE

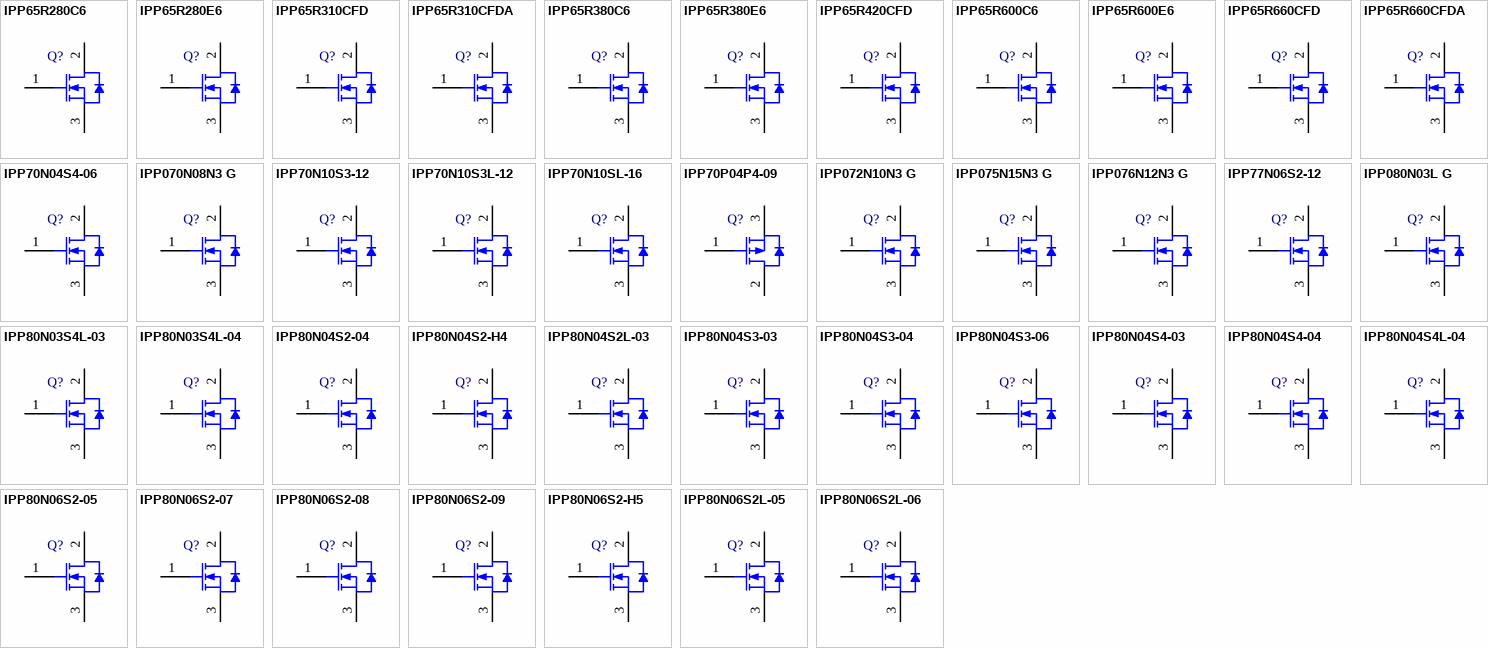
[diagram p28: symbols IPP65R280C6 to IPP80N06S2L-06]

## IPP65R280C6
designator Q?
N-Channel CoolMOS C6 Power-Transistor, 650 V VDS, 13.8 A ID, -55 to 150 degC, PG-TO220-3-1, Tube, Green; Manufacturer: Infineon; PartNumber: IPP65R280C6; Green: TRUE; ID (max): 13.8 A; IDpuls (max): 39 A; Polarity: N; Ptot (max): 104 W; QG: 45 nC; RDS (on) (max): 280 mOhm; Rth: 1.2 K/W; RthJA (max): 62 K/W; VDS (max): 650 V; VGS(th) (max): 3.5 V; VGS(th) (min): 2.5 V; DatasheetVersion: Rev. 2.0; PackageVersion: Jul-12; PackageReference: PG-TO220-3-1; PackageDescription: 3-Pin Plastic (Green) Transistor Single Outline Package, 10 x 9.25 mm Body, 2.54 mm Pitch; Supplier 1: Mouser; Supplier Part Number 1: 726-IPP65R280C6; Supplier 2: Digi-Key; Supplier Part Number 2: IPP65R280C6-ND; Halogen-free: TRUE; Packing: Tube; RthJC (max): 1.2 K/W; Technology: CoolMOS C6; Mounting Technology: Through Hole; ComponentLink1Description: Manufacturer URL; ComponentLink1URL: http://www.infineon.com/; ComponentLink2Description: Datasheet; ComponentLink2URL: http://www.infineon.com/dgdl/IPP65R280C6_2_0.pdf?folderId=db3a3043163797a6011637d4bae7003b&fileId=db3a30432a7fedfc012a8a961e7158be; ComponentLink3Description: Package Specification; ComponentLink3URL: http://www.infineon.com/dgdl/BTS117_DS_14.pdf?folderId=db3a30431400ef68011421b54e2e0564&fileId=db3a30433a747525013abff8302d549c&location=en.Products.Automotive_ICs.Smart_High-_and_Low-Side_Switches.HITFET___TEMPFET__-_Smart_Low-Side_Switches.DATASHEET.BTS117_DS_14.pdf
footprint INF-PG-TO220-3-1 (FM, 3-Leads, Body 10x4.4mm, Pitch 2.54mm)
pins: 1 GATE, 2 DRAIN, 3 SOURCE

## IPP65R280E6
designator Q?
N-Channel CoolMOS E6 Power-Transistor, 650 V VDS, 13.8 A ID, -55 to 150 degC, PG-TO220-3-1, Tube, Green; Manufacturer: Infineon; PartNumber: IPP65R280E6; Green: TRUE; ID (max): 13.8 A; IDpuls (max): 39 A; Polarity: N; Ptot (max): 104 W; QG: 45 nC; RDS (on) (max): 280 mOhm; Rth: 1.2 K/W; RthJA (max): 62 K/W; VDS (max): 650 V; VGS(th) (max): 3.5 V; VGS(th) (min): 2.5 V; DatasheetVersion: Rev. 2.1; PackageVersion: Jul-12; PackageReference: PG-TO220-3-1; PackageDescription: 3-Pin Plastic (Green) Transistor Single Outline Package, 10 x 9.25 mm Body, 2.54 mm Pitch; Supplier 1: Mouser; Supplier Part Number 1: 726-IPP65R280E6; Supplier 2: Digi-Key; Supplier Part Number 2: IPP65R280E6-ND; Halogen-free: TRUE; Packing: Tube; RthJC (max): 1.2 K/W; Technology: CoolMOS E6; Mounting Technology: Through Hole; ComponentLink1Description: Manufacturer URL; ComponentLink1URL: http://www.infineon.com/; ComponentLink2Description: Datasheet; ComponentLink2URL: http://www.infineon.com/dgdl/IPP65R280E6_2_1.pdf?folderId=db3a3043163797a6011637d4bae7003b&fileId=db3a30432a7fedfc012a9e060bb10747; ComponentLink3Description: Package Specification; ComponentLink3URL: http://www.infineon.com/dgdl/BTS117_DS_14.pdf?folderId=db3a30431400ef68011421b54e2e0564&fileId=db3a30433a747525013abff8302d549c&location=en.Products.Automotive_ICs.Smart_High-_and_Low-Side_Switches.HITFET___TEMPFET__-_Smart_Low-Side_Switches.DATASHEET.BTS117_DS_14.pdf
footprint INF-PG-TO220-3-1 (FM, 3-Leads, Body 10x4.4mm, Pitch 2.54mm)
pins: 1 GATE, 2 DRAIN, 3 SOURCE

## IPP65R310CFD
designator Q?
N-Channel CoolMOS CFD2 Power-Transistor, 650 V VDS, 11.4 A ID, -55 to 150 degC, PG-TO220-3-1, Tube, Green; Manufacturer: Infineon; PartNumber: IPP65R310CFD; Green: TRUE; ID (max): 11.4 A; IDpuls (max): 34.4 A; Polarity: N; Ptot (max): 104.2 W; QG: 41 nC; RDS (on) (max): 310 mOhm; Rth: 1.2 K/W; RthJA (max): 62 K/W; VDS (max): 650 V; VGS(th) (max): 4.5 V; VGS(th) (min): 3.5 V; DatasheetVersion: Rev. 2.3; PackageVersion: Jul-12; PackageReference: PG-TO220-3-1; PackageDescription: 3-Pin Plastic (Green) Transistor Single Outline Package, 10 x 9.25 mm Body, 2.54 mm Pitch; Supplier 1: Mouser; Supplier Part Number 1: 726-IPP65R310CFD; Supplier 2: Digi-Key; Supplier Part Number 2: IPP65R310CFD-ND; Halogen-free: TRUE; Packing: Tube; RthJC (max): 1.2 K/W; Technology: CoolMOS CFD2; Mounting Technology: Through Hole; ComponentLink1Description: Manufacturer URL; ComponentLink1URL: http://www.infineon.com/; ComponentLink2Description: Datasheet; ComponentLink2URL: http://www.infineon.com/dgdl/DS_IPX65R310CFD__2_3.pdf?folderId=db3a3043163797a6011637d4bae7003b&fileId=db3a30432f91014f012f9caff105741c; ComponentLink3Description: Package Specification; ComponentLink3URL: http://www.infineon.com/dgdl/BTS117_DS_14.pdf?folderId=db3a30431400ef68011421b54e2e0564&fileId=db3a30433a747525013abff8302d549c&location=en.Products.Automotive_ICs.Smart_High-_and_Low-Side_Switches.HITFET___TEMPFET__-_Smart_Low-Side_Switches.DATASHEET.BTS117_DS_14.pdf
footprint INF-PG-TO220-3-1 (FM, 3-Leads, Body 10x4.4mm, Pitch 2.54mm)
pins: 1 GATE, 2 DRAIN, 3 SOURCE

## IPP65R310CFDA
designator Q?
N-Channel CoolMOS CFDA Power-Transistor, 650 V VDS, 11.4 A ID, -40 to 150 degC, PG-TO220-3-1, Tube, Green; Manufacturer: Infineon; PartNumber: IPP65R310CFDA; Green: TRUE; ID (max): 11.4 A; IDpuls (max): 34.4 A; Polarity: N; Ptot (max): 104.2 W; QG: 41 nC; RDS (on) (max): 310 mOhm; Rth: 1.2 K/W; RthJA (max): 62 K/W; VDS (max): 650 V; VGS(th) (max): 4.5 V; VGS(th) (min): 3.5 V; DatasheetVersion: Rev. 2.0; PackageVersion: Jul-12; PackageReference: PG-TO220-3-1; PackageDescription: 3-Pin Plastic (Green) Transistor Single Outline Package, 10 x 9.25 mm Body, 2.54 mm Pitch; Halogen-free: TRUE; Packing: Tube; RthJC (max): 1.2 K/W; Technology: CoolMOS CFDA; Mounting Technology: Through Hole; ComponentLink1Description: Manufacturer URL; ComponentLink1URL: http://www.infineon.com/; ComponentLink2Description: Datasheet; ComponentLink2URL: http://www.infineon.com/dgdl/DS_IPX65R310CFDA_2_0.pdf?folderId=db3a3043163797a6011637d4bae7003b&fileId=db3a304336797ff90136bafdd723265d; ComponentLink3Description: Package Specification; ComponentLink3URL: http://www.infineon.com/dgdl/BTS117_DS_14.pdf?folderId=db3a30431400ef68011421b54e2e0564&fileId=db3a30433a747525013abff8302d549c&location=en.Products.Automotive_ICs.Smart_High-_and_Low-Side_Switches.HITFET___TEMPFET__-_Smart_Low-Side_Switches.DATASHEET.BTS117_DS_14.pdf
footprint INF-PG-TO220-3-1 (FM, 3-Leads, Body 10x4.4mm, Pitch 2.54mm)
pins: 1 GATE, 2 DRAIN, 3 SOURCE

## IPP65R380C6
designator Q?
N-Channel CoolMOS C6 Power-Transistor, 650 V VDS, 10.6 A ID, -55 to 150 degC, PG-TO220-3-1, Tube, Green; Manufacturer: Infineon; PartNumber: IPP65R380C6; Green: TRUE; ID (max): 10.6 A; IDpuls (max): 29 A; Polarity: N; Ptot (max): 83 W; QG: 39 nC; RDS (on) (max): 380 mOhm; Rth: 1.5 K/W; RthJA (max): 62 K/W; VDS (max): 650 V; VGS(th) (max): 3.5 V; VGS(th) (min): 2.5 V; DatasheetVersion: Rev. 2.0; PackageVersion: Jul-12; PackageReference: PG-TO220-3-1; PackageDescription: 3-Pin Plastic (Green) Transistor Single Outline Package, 10 x 9.25 mm Body, 2.54 mm Pitch; Supplier 1: Mouser; Supplier Part Number 1: 726-IPP65R380C6; Supplier 2: Digi-Key; Supplier Part Number 2: IPP65R380C6-ND; Halogen-free: TRUE; Packing: Tube; RthJC (max): 1.5 K/W; Technology: CoolMOS C6; Mounting Technology: Through Hole; ComponentLink1Description: Manufacturer URL; ComponentLink1URL: http://www.infineon.com/; ComponentLink2Description: Datasheet; ComponentLink2URL: http://www.infineon.com/dgdl/IPP65R380C6+2.0.pdf?folderId=db3a3043163797a6011637d4bae7003b&fileId=db3a30432ba3fa6f012bf2d555ca77de; ComponentLink3Description: Package Specification; ComponentLink3URL: http://www.infineon.com/dgdl/BTS117_DS_14.pdf?folderId=db3a30431400ef68011421b54e2e0564&fileId=db3a30433a747525013abff8302d549c&location=en.Products.Automotive_ICs.Smart_High-_and_Low-Side_Switches.HITFET___TEMPFET__-_Smart_Low-Side_Switches.DATASHEET.BTS117_DS_14.pdf
footprint INF-PG-TO220-3-1 (FM, 3-Leads, Body 10x4.4mm, Pitch 2.54mm)
pins: 1 GATE, 2 DRAIN, 3 SOURCE

## IPP65R380E6
designator Q?
N-Channel CoolMOS E6 Power-Transistor, 650 V VDS, 10.6 A ID, -55 to 150 degC, PG-TO220-3-1, Tube, Green; Manufacturer: Infineon; PartNumber: IPP65R380E6; Green: TRUE; ID (max): 10.6 A; IDpuls (max): 29 A; Polarity: N; Ptot (max): 83 W; QG: 39 nC; RDS (on) (max): 380 mOhm; Rth: 1.5 K/W; RthJA (max): 62 K/W; VDS (max): 650 V; VGS(th) (max): 3.5 V; VGS(th) (min): 2.5 V; DatasheetVersion: Rev. 2.0; PackageVersion: Jul-12; PackageReference: PG-TO220-3-1; PackageDescription: 3-Pin Plastic (Green) Transistor Single Outline Package, 10 x 9.25 mm Body, 2.54 mm Pitch; Supplier 1: Mouser; Supplier Part Number 1: 726-IPP65R380E6; Supplier 2: Digi-Key; Supplier Part Number 2: IPP65R380E6-ND; Halogen-free: TRUE; Packing: Tube; RthJC (max): 1.5 K/W; Technology: CoolMOS E6; Mounting Technology: Through Hole; ComponentLink1Description: Manufacturer URL; ComponentLink1URL: http://www.infineon.com/; ComponentLink2Description: Datasheet; ComponentLink2URL: http://www.infineon.com/dgdl/IPP65R380E6_2_0.pdf?folderId=db3a3043163797a6011637d4bae7003b&fileId=db3a304328c6bd5c012916dabc4d3351; ComponentLink3Description: Package Specification; ComponentLink3URL: http://www.infineon.com/dgdl/BTS117_DS_14.pdf?folderId=db3a30431400ef68011421b54e2e0564&fileId=db3a30433a747525013abff8302d549c&location=en.Products.Automotive_ICs.Smart_High-_and_Low-Side_Switches.HITFET___TEMPFET__-_Smart_Low-Side_Switches.DATASHEET.BTS117_DS_14.pdf
footprint INF-PG-TO220-3-1 (FM, 3-Leads, Body 10x4.4mm, Pitch 2.54mm)
pins: 1 GATE, 2 DRAIN, 3 SOURCE

## IPP65R420CFD
designator Q?
N-Channel CoolMOS CFD2 Power-Transistor, 650 V VDS, 8.7 A ID, -55 to 150 degC, PG-TO220-3-1, Tube, Green; Manufacturer: Infineon; PartNumber: IPP65R420CFD; Green: TRUE; ID (max): 8.7 A; IDpuls (max): 27 A; Polarity: N; Ptot (max): 83.3 W; QG: 32 nC; RDS (on) (max): 420 mOhm; Rth: 1.5 K/W; RthJA (max): 62 K/W; VDS (max): 650 V; VGS(th) (max): 4.5 V; VGS(th) (min): 3.5 V; DatasheetVersion: Rev. 2.4; PackageVersion: Jul-12; PackageReference: PG-TO220-3-1; PackageDescription: 3-Pin Plastic (Green) Transistor Single Outline Package, 10 x 9.25 mm Body, 2.54 mm Pitch; Supplier 1: Mouser; Supplier Part Number 1: 726-IPP65R420CFD; Supplier 2: Digi-Key; Supplier Part Number 2: IPP65R420CFD-ND; Halogen-free: TRUE; Packing: Tube; RthJC (max): 1.5 K/W; Technology: CoolMOS CFD2; Mounting Technology: Through Hole; ComponentLink1Description: Manufacturer URL; ComponentLink1URL: http://www.infineon.com/; ComponentLink2Description: Datasheet; ComponentLink2URL: http://www.infineon.com/dgdl/DS_IPX65R420CFD_2_4.pdf?folderId=db3a3043156fd5730115c736bcc70ff2&fileId=db3a30432f91014f012f9c293f1a7399; ComponentLink3Description: Package Specification; ComponentLink3URL: http://www.infineon.com/dgdl/BTS117_DS_14.pdf?folderId=db3a30431400ef68011421b54e2e0564&fileId=db3a30433a747525013abff8302d549c&location=en.Products.Automotive_ICs.Smart_High-_and_Low-Side_Switches.HITFET___TEMPFET__-_Smart_Low-Side_Switches.DATASHEET.BTS117_DS_14.pdf
footprint INF-PG-TO220-3-1 (FM, 3-Leads, Body 10x4.4mm, Pitch 2.54mm)
pins: 1 GATE, 2 DRAIN, 3 SOURCE

## IPP65R600C6
designator Q?
N-Channel CoolMOS C6 Power-Transistor, 650 V VDS, 7.3 A ID, -55 to 150 degC, PG-TO220-3-1, Tube, Green; Manufacturer: Infineon; PartNumber: IPP65R600C6; Green: TRUE; ID (max): 7.3 A; IDpuls (max): 18 A; Polarity: N; Ptot (max): 63 W; QG: 23 nC; RDS (on) (max): 600 mOhm; Rth: 2 K/W; RthJA (max): 62 K/W; VDS (max): 650 V; VGS(th) (max): 3.5 V; VGS(th) (min): 2.5 V; DatasheetVersion: Rev. 2.0; PackageVersion: Jul-12; PackageReference: PG-TO220-3-1; PackageDescription: 3-Pin Plastic (Green) Transistor Single Outline Package, 10 x 9.25 mm Body, 2.54 mm Pitch; Supplier 1: Mouser; Supplier Part Number 1: 726-IPP65R600C6; Supplier 2: Digi-Key; Supplier Part Number 2: IPP65R600C6-ND; Halogen-free: TRUE; Packing: Tube; RthJC (max): 2 K/W; Technology: CoolMOS C6; Mounting Technology: Through Hole; ComponentLink1Description: Manufacturer URL; ComponentLink1URL: http://www.infineon.com/; ComponentLink2Description: Datasheet; ComponentLink2URL: http://www.infineon.com/dgdl/IPP65R600C6_2_0.pdf?folderId=db3a3043163797a6011637d4bae7003b&fileId=db3a30432ac1eb91012ac74e318c2c70; ComponentLink3Description: Package Specification; ComponentLink3URL: http://www.infineon.com/dgdl/BTS117_DS_14.pdf?folderId=db3a30431400ef68011421b54e2e0564&fileId=db3a30433a747525013abff8302d549c&location=en.Products.Automotive_ICs.Smart_High-_and_Low-Side_Switches.HITFET___TEMPFET__-_Smart_Low-Side_Switches.DATASHEET.BTS117_DS_14.pdf
footprint INF-PG-TO220-3-1 (FM, 3-Leads, Body 10x4.4mm, Pitch 2.54mm)
pins: 1 GATE, 2 DRAIN, 3 SOURCE

## IPP65R600E6
designator Q?
N-Channel CoolMOS E6 Power-Transistor, 650 V VDS, 7.3 A ID, -55 to 150 degC, PG-TO220-3-1, Tube, Green; Manufacturer: Infineon; PartNumber: IPP65R600E6; Green: TRUE; ID (max): 7.3 A; IDpuls (max): 18 A; Polarity: N; Ptot (max): 63 W; QG: 23 nC; RDS (on) (max): 600 mOhm; Rth: 2 K/W; RthJA (max): 62 K/W; VDS (max): 650 V; VGS(th) (max): 3.5 V; VGS(th) (min): 2.5 V; DatasheetVersion: Rev. 2.0; PackageVersion: Jul-12; PackageReference: PG-TO220-3-1; PackageDescription: 3-Pin Plastic (Green) Transistor Single Outline Package, 10 x 9.25 mm Body, 2.54 mm Pitch; Supplier 1: Mouser; Supplier Part Number 1: 726-IPP65R600E6; Supplier 2: Digi-Key; Supplier Part Number 2: IPP65R600E6-ND; Halogen-free: TRUE; Packing: Tube; RthJC (max): 2 K/W; Technology: CoolMOS E6; Mounting Technology: Through Hole; ComponentLink1Description: Manufacturer URL; ComponentLink1URL: http://www.infineon.com/; ComponentLink2Description: Datasheet; ComponentLink2URL: http://www.infineon.com/dgdl/IPP65R600E6_2_0.pdf?folderId=db3a3043163797a6011637d4bae7003b&fileId=db3a304329a0f6ee0129d16f1b0d0661; ComponentLink3Description: Package Specification; ComponentLink3URL: http://www.infineon.com/dgdl/BTS117_DS_14.pdf?folderId=db3a30431400ef68011421b54e2e0564&fileId=db3a30433a747525013abff8302d549c&location=en.Products.Automotive_ICs.Smart_High-_and_Low-Side_Switches.HITFET___TEMPFET__-_Smart_Low-Side_Switches.DATASHEET.BTS117_DS_14.pdf
footprint INF-PG-TO220-3-1 (FM, 3-Leads, Body 10x4.4mm, Pitch 2.54mm)
pins: 1 GATE, 2 DRAIN, 3 SOURCE

## IPP65R660CFD
designator Q?
N-Channel CoolMOS CFD2 Power-Transistor, 650 V VDS, 6 A ID, -55 to 150 degC, PG-TO220-3-1, Tube, Green; Manufacturer: Infineon; PartNumber: IPP65R660CFD; Green: TRUE; ID (max): 6 A; IDpuls (max): 17 A; Polarity: N; Ptot (max): 62.5 W; QG: 22 nC; RDS (on) (max): 660 mOhm; Rth: 2 K/W; RthJA (max): 62 K/W; VDS (max): 650 V; VGS(th) (max): 4.5 V; VGS(th) (min): 3.5 V; DatasheetVersion: Rev. 2.5; PackageVersion: Jul-12; PackageReference: PG-TO220-3-1; PackageDescription: 3-Pin Plastic (Green) Transistor Single Outline Package, 10 x 9.25 mm Body, 2.54 mm Pitch; Supplier 1: Mouser; Supplier Part Number 1: 726-IPP65R660CFD; Supplier 2: Digi-Key; Supplier Part Number 2: IPP65R660CFD-ND; Halogen-free: TRUE; Packing: Tube; RthJC (max): 2 K/W; Technology: CoolMOS CFD2; Mounting Technology: Through Hole; ComponentLink1Description: Manufacturer URL; ComponentLink1URL: http://www.infineon.com/; ComponentLink2Description: Datasheet; ComponentLink2URL: http://www.infineon.com/dgdl/DS_IPX65R660CFD_2_5.pdf?folderId=db3a3043163797a6011637d4e912003c&fileId=db3a30432e0bea21012e14dccc656df9; ComponentLink3Description: Package Specification; ComponentLink3URL: http://www.infineon.com/dgdl/BTS117_DS_14.pdf?folderId=db3a30431400ef68011421b54e2e0564&fileId=db3a30433a747525013abff8302d549c&location=en.Products.Automotive_ICs.Smart_High-_and_Low-Side_Switches.HITFET___TEMPFET__-_Smart_Low-Side_Switches.DATASHEET.BTS117_DS_14.pdf
footprint INF-PG-TO220-3-1 (FM, 3-Leads, Body 10x4.4mm, Pitch 2.54mm)
pins: 1 GATE, 2 DRAIN, 3 SOURCE

## IPP65R660CFDA
designator Q?
N-Channel CoolMOS CFDA Power-Transistor, 650 V VDS, 6 A ID, -40 to 150 degC, PG-TO220-3-1, Tube, Green; Manufacturer: Infineon; PartNumber: IPP65R660CFDA; Green: TRUE; ID (max): 6 A; IDpuls (max): 17 A; Polarity: N; Ptot (max): 62.5 W; QG: 20 nC; RDS (on) (max): 660 mOhm; Rth: 2 K/W; RthJA (max): 62 K/W; VDS (max): 650 V; VGS(th) (max): 4.5 V; VGS(th) (min): 3.5 V; DatasheetVersion: Rev. 2.0; PackageVersion: Jul-12; PackageReference: PG-TO220-3-1; PackageDescription: 3-Pin Plastic (Green) Transistor Single Outline Package, 10 x 9.25 mm Body, 2.54 mm Pitch; Halogen-free: TRUE; Packing: Tube; RthJC (max): 2 K/W; Technology: CoolMOS CFDA; Mounting Technology: Through Hole; ComponentLink1Description: Manufacturer URL; ComponentLink1URL: http://www.infineon.com/; ComponentLink2Description: Datasheet; ComponentLink2URL: http://www.infineon.com/dgdl/DS_IPX65R660CFDA_2_0.pdf?folderId=db3a3043163797a6011637d4bae7003b&fileId=db3a304336797ff90136bb242dbe2692; ComponentLink3Description: Package Specification; ComponentLink3URL: http://www.infineon.com/dgdl/BTS117_DS_14.pdf?folderId=db3a30431400ef68011421b54e2e0564&fileId=db3a30433a747525013abff8302d549c&location=en.Products.Automotive_ICs.Smart_High-_and_Low-Side_Switches.HITFET___TEMPFET__-_Smart_Low-Side_Switches.DATASHEET.BTS117_DS_14.pdf
footprint INF-PG-TO220-3-1 (FM, 3-Leads, Body 10x4.4mm, Pitch 2.54mm)
pins: 1 GATE, 2 DRAIN, 3 SOURCE